# EAGLE library part MT25QL01GBBB1EW9-0SIT (library RescueRunner)
NOR Flash SPI FLASH NOR SLC 256MX4 WPDFN DDP Source: Datasheet <https://www.micron.com/-/media/client/global/documents/products/data-sheet/nor-flash/serial-nor/mt25q/die-rev-b/mt25q_qlkt_l_01g_bbb_0.pdf>
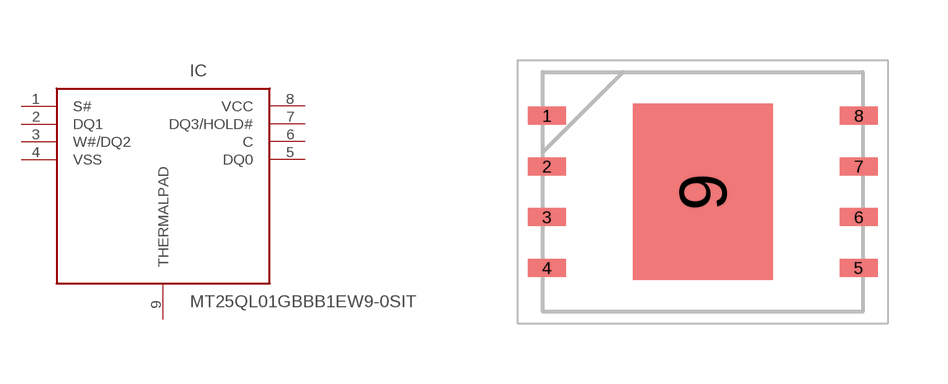
[diagram p28: symbol with the pads of SON127P800X600X80-9N; footprint SON127P800X600X80-9N]

Designator prefix IC

## MT25QL01GBBB1EW9-0SIT (DESCRIPTION: NOR Flash SPI FLASH NOR SLC 256MX4 WPDFN DDP; HEIGHT: 0.8mm; MANUFACTURER_NAME: Micron; MANUFACTURER_PART_NUMBER: MT25QL01GBBB1EW9-0SIT)  [SON127P800X600X80-9N]
1  S#
2  DQ1
3  W#/DQ2
4  VSS
5  DQ0
6  C
7  DQ3/HOLD#
8  VCC
9  THERMALPAD

## Footprint SON127P800X600X80-9N (pad centres in mm)
W-PDFN-8 (MLP8) 8MM X 6MM
smd 0.95 x 0.45: 1 -3.9,1.905; 2 -3.9,0.635; 3 -3.9,-0.635; 4 -3.9,-1.905; 5 3.9,-1.905; 6 3.9,-0.635; 7 3.9,0.635; 8 3.9,1.905
smd 3.5 x 4.4: 9 0,0